# Altium schematic symbol library MMG3H21NT1.Schlib: 1 symbol
Pins are listed as number, name and electrical type; pins without a type are passive.

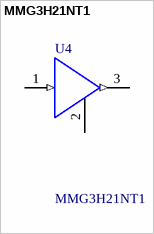
[diagram p0: symbol MMG3H21NT1]

## MMG3H21NT1
designator U4
RF Amplifier IC GPS/GNSS 1.55GHz ~ 1.615GHz TSNP-6-2RF Amplifier IC 0Hz ~ 6GHz SOT-89-4
pins: 1 RFIN (in), 2 GND (power), 3 RFOUT (out)